# Altium integrated library Linear Technology Power Management Hot Swap Controllers.IntLib: 992 symbols (part 67 of 93)
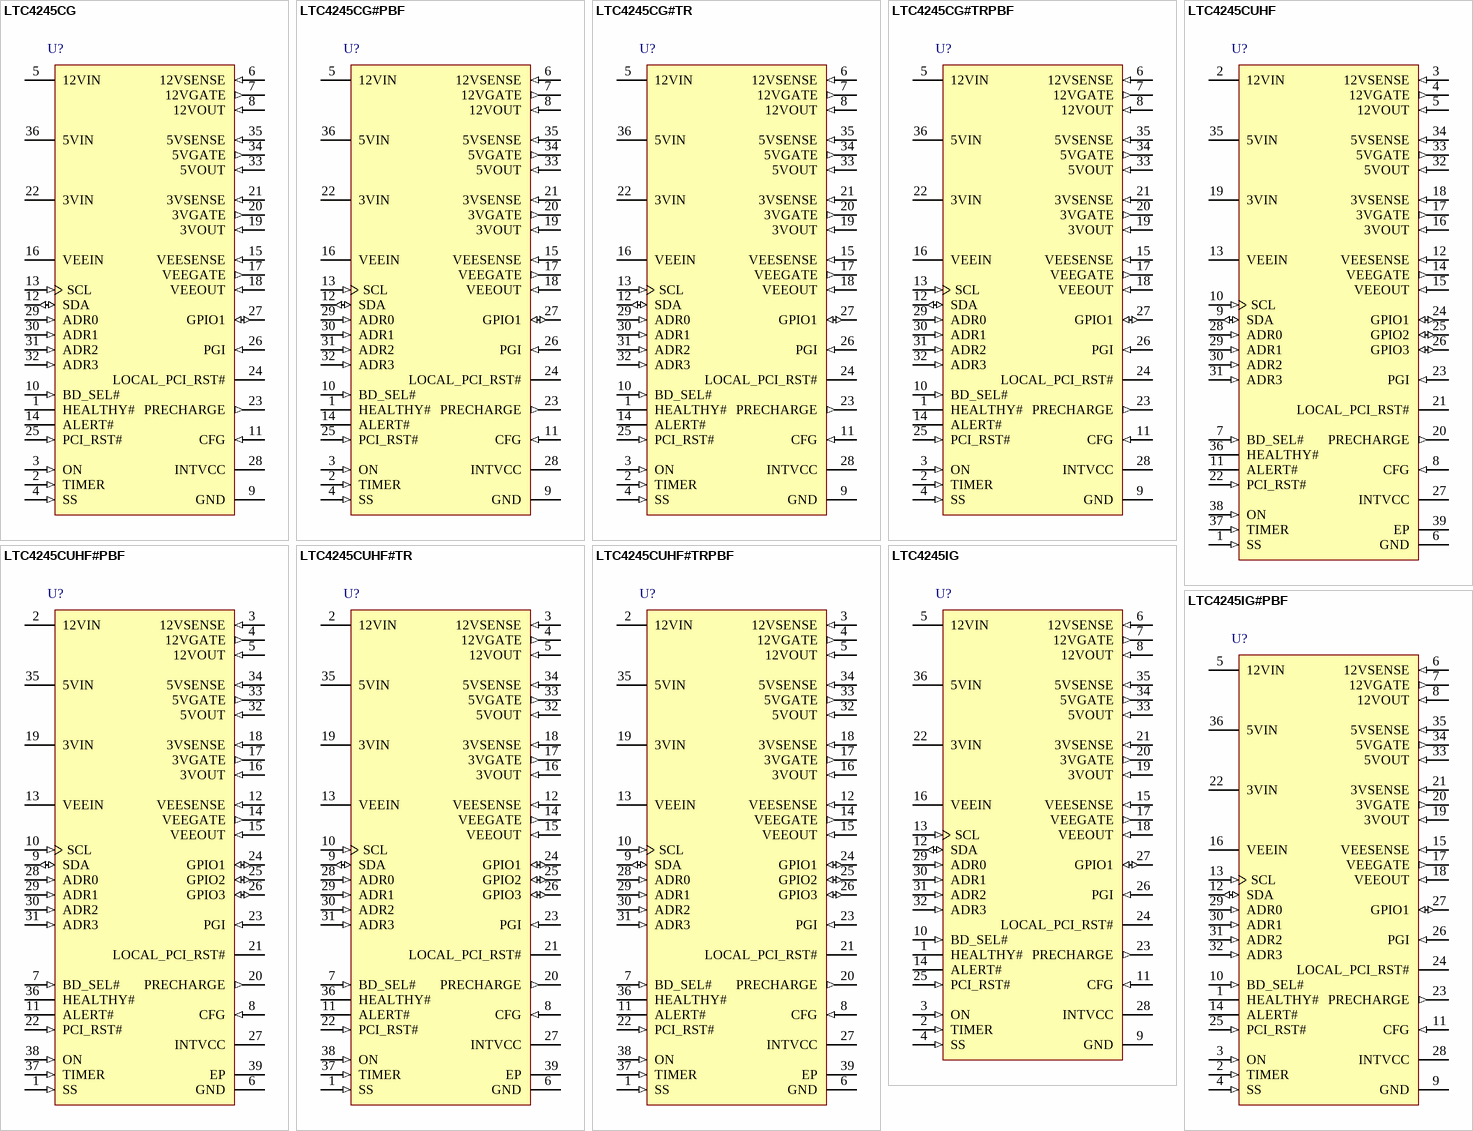
[diagram p103: symbols LTC4245CG to LTC4245IG#PBF]

## LTC4245CUHF#TR
designator U?
Multiple Supply Hot Swap Controller with I2C Compatible Monitoring, 3.3 V, 5 V, +/-12 V Vin, 38-pin QFN (UHF-38), 0 to 70 degC, Tape and Reel; Manufacturer: Linear Technology; PartNumber: LTC4245CUHF#TR; Active Limiting: yes; ADC: 8-bit; Circuit Breaker Accuracy(%): 10; Circuit Breaker Threshold: 25 mV (3.3,5), 50 mV (+/-12); Circuit Breakers(#): 4; Extended Temp: C, I; Fast Comparator: no; In-Rush Current: Active; Vin Range: 3.3, 5, +/-12 or 3.3, 12, 3.3 aux; DatasheetVersion: Rev. A; PackageVersion: Rev. C, 06/2010; PackageReference: UHF-38; PackageDescription: 38-Pin Plastic QFN, Body 7 x 5 mm, Pitch 0.5 mm; Fault: yes; Foldback: yes; Packing: Tape and Reel; Power Good: no; Reset: no; RoHS: FALSE; Mounting Technology: Surface Mount; Code_JEDEC: MO-220; ComponentLink1Description: Manufacturer URL; ComponentLink1URL: http://www.linear.com/; ComponentLink2Description: Datasheet; ComponentLink2URL: http://cds.linear.com/docs/en/datasheet/4245fa.pdf; ComponentLink3Description: Package Specification; ComponentLink3URL: http://cds.linear.com/docs/en/packaging/QFN_38_05-08-1701.pdf
footprint LT-UHF-38_N (QFN, 38-Leads, Body 7.1x5.1mm, Pitch 0.5mm, Thermal Pad 3.15x5.15mm, IPC Medium Density)
footprint LT-UHF-38_L (QFN, 38-Leads, Body 7.1x5.1mm, Pitch 0.5mm, Thermal Pad 3.15x5.15mm, IPC High Density)
footprint LT-UHF-38_M (QFN, 38-Leads, Body 7.1x5.1mm, Pitch 0.5mm, Thermal Pad 3.15x5.15mm, IPC Low Density)
pins: 1 SS (in) "Soft-Start Input. Connect a capacitor between this pin and ground to set the rate of increase of current limit during start-up for dI/dt limited inrush current. When an external MOSFET is turned on, a 20uA pull-up current (See Datasheet)", 2 12VIN (power) "12V Supply, Current Sense and ADC Input. The internal low voltage supply VCC is generated from 12VIN. An undervoltage lockout circuit, with 38mV hysteresis, prevents any external MOSFET from turning on when this pin is below (See Datasheet)", 3 12VSENSE (in) "12V Supply Current Sense and ADC Input. Connect this pin to the output of the 12V current sense resistor. The current limit circuit controls the 12VGATE pin to limit the sense voltage between the 12VIN and 12VSENSE pins to (See Datasheet)", 4 12VGATE (out) "Gate Drive for 12V Supply External N-Channel MOSFET. An internal 20uA current source charges the gate of the external N-channel MOSFET. An internal clamp limits the gate voltage to 6.2V above 12VOUT. During turn-off a 1.3mA (See Datasheet)", 5 12VOUT (in) "12V Gate Drive Return; Foldback, ADC and Power Bad Input. Connect this pin to the source of the 12V supply external N-channel MOSFET switch for gate drive return. Power is considered bad if this pin drops below 11.1V. The (See Datasheet)", 6 GND (power) "Device Ground.", 7 BD_SEL# (in) "Board Present Input. Ground this pin to enable the N-channel MOSFETs to turn on. When this pin is high, the MOSFETs are off. An internal 10uA current source pulls up this pin to INTVCC. Transitions on this pin will be (See Datasheet)", 8 CFG (in) "Supply Configuration Three-State Input. When this pin is grounded, all four supply inputs must satisfy their undervoltage lockout levels to allow the external MOSFETs to turn on. Floating this pin disables VEE undervoltage (See Datasheet)", 9 SDA (io) "Serial Bus Data Input and Output. This is a high impedance input when address, command or data bits are shifted in. It is an open-drain output when sending data back to the master controller or acknowledging a write (See Datasheet)", 10 SCL (in) "Serial Bus Clock Input. Data at the SDA pin is shifted in or out on rising edges of SCL. This is a high impedance pin that is generally driven by an open-collector output from a master controller.", 11 ALERT# (oc) "Fault Alert Output. Open-drain logic output that can be pulled to ground, when a fault occurs, to alert the host controller. A fault alert is enabled by the ALERT register. This device is compatible with SMBus alert protocol.(See Datasheet)", 12 VEESENSE (in) "-12V Supply Current Sense and ADC Input. Connect this pin to the output of the -12V current sense resistor. The current limit circuit controls the VEEGATE pin to limit the sense voltage between the VEESENSE and VEEIN pins to (See Datasheet)", 13 VEEIN (power) "-12V Supply, Current Sense and ADC Input. An undervoltage lockout circuit, with 38mV hysteresis, prevents any external MOSFET from turning on when this pin is above -10.5V. The VEEIN undervoltage lockout can be disabled by (See Datasheet)", 14 VEEGATE (out) "Gate Drive for -12V Supply External N-Channel MOSFET. An internal 20uA current source charges the gate of the external N-channel MOSFET. An internal clamp limits the gate voltage to 6.2V above VEEIN. During turn-off, a 3.5mA (See Datasheet)", 15 VEEOUT (in) "-12V Supply Foldback, ADC and Power Bad Input. Connect this pin to the drain of the -H497512V supply external N-channel MOSFET switch. Power is considered bad if this pin rises above -11.1V. The comparator on this pin has a (See Datasheet)", 16 3VOUT (in) "3.3V Gate Drive Return; Foldback, ADC and Power Bad Input. Connect this pin to the source of the 3.3V supply external N-channel MOSFET switch for gate drive return. Power is considered bad if this pin drops below 2.9V. The (See Datasheet)", 17 3VGATE (out) "Gate Drive for 3.3V Supply External N-Channel MOSFET. An internal 20uA current source charges the gate of the external N-channel MOSFET. An internal clamp limits the gate voltage to 6.2V above 3VOUT. During turn-off a 1.3mA (See Datasheet)", 18 3VSENSE (in) "3.3V Supply Current Sense and ADC Input. Connect this pin to the output of the 3.3V current sense resistor. The current limit circuit controls the 3VGATE pin to limit the sense voltage between the 3VIN and 3VSENSE pins to (See Datasheet)", 19 3VIN (power) "3.3V Supply, Current Sense and ADC Input. The 1V precharge circuit draws its power and reference voltage from 3VIN. An undervoltage lockout circuit, with 10mV hysteresis, prevents any external MOSFET from turning on when (See Datasheet)", 20 PRECHARGE (out) "Bus Precharge Output. This pin can source 70mA at 1V as soon as 3VIN is powered-up. Leave it open if unused.", 21 LOCAL_PCI_RST# (oc) "Reset Output. This pin is pulled low by an open-drain output whenever HEALTHY# is high or when the PCI_RST# input is low. Tie to ground if unused.", 22 PCI_RST# (in) "Reset Input. Pulling this pin low causes LOCAL_PCI_RST# to pull low. When high, LOCAL_PCI_RST# is the logical inverse of HEALTHY#. Tie to INTVCC if unused.", 23 PGI (in) "Power Good Input. Tie this pin to the R\E\S\E\T\ output of an external supply monitor or power good output of a DC/DC converter. When all supplies have been turned on, a timing cycle is started at the end of which the PGI (See Datasheet)", 24 GPIO1 (io) "General Purpose Input/Output and ADC Input. Open-drain logic outputs and logic inputs. Any one of the three pins can be multiplexed to the GPIO channel of the internal ADC. GPIO1 has a state change fault associated with it. (See Datasheet)", 25 GPIO2 (io) "General Purpose Input/Output and ADC Input. Open-drain logic outputs and logic inputs. Any one of the three pins can be multiplexed to the GPIO channel of the internal ADC. GPIO1 has a state change fault associated with it. (See Datasheet)", 26 GPIO3 (io) "General Purpose Input/Output and ADC Input. Open-drain logic outputs and logic inputs. Any one of the three pins can be multiplexed to the GPIO channel of the internal ADC. GPIO1 has a state change fault associated with it. (See Datasheet)", 27 INTVCC (power) "Internal Low Voltage Supply Decoupling Output. Connect a 0.1uF capacitor from this pin to ground. When this pin falls below 3.8V, the internal registers are reset.", 28 ADR0 (in) "Serial Bus Address Inputs. ADR0 and ADR1 are two-state inputs; ADR2 and ADR3 are threestate inputs. Tying these pins to ground, open or INTVCC configures one of 32 possible addresses. The addressing scheme is compatible (See Datasheet)", 29 ADR1 (in) "Serial Bus Address Inputs. ADR0 and ADR1 are two-state inputs; ADR2 and ADR3 are threestate inputs. Tying these pins to ground, open or INTVCC configures one of 32 possible addresses. The addressing scheme is compatible (See Datasheet)", 30 ADR2 (in) "Serial Bus Address Inputs. ADR0 and ADR1 are two-state inputs; ADR2 and ADR3 are threestate inputs. Tying these pins to ground, open or INTVCC configures one of 32 possible addresses. The addressing scheme is compatible (See Datasheet)", 31 ADR3 (in) "Serial Bus Address Inputs. ADR0 and ADR1 are two-state inputs; ADR2 and ADR3 are threestate inputs. Tying these pins to ground, open or INTVCC configures one of 32 possible addresses. The addressing scheme is compatible (See Datasheet)", 32 5VOUT (in) "5V Gate Drive Return; Foldback, ADC and Power Bad Input. Connect this pin to the source of the 5V supply external N-channel MOSFET switch for gate drive return. Power is considered bad if this pin drops below 4.63V or 2.9V (See Datasheet)", 33 5VGATE (out) "Gate Drive for 5V Supply External N-Channel MOSFET. An internal 20uA current source charges the gate of the external N-channel MOSFET. An internal clamp limits the gate voltage to 6.2V above 5VOUT. During turn-off a 1.3mA (See Datasheet)", 34 5VSENSE (in) "5V Supply Current Sense and ADC Input. Connect this pin to the output of the 5V current sense resistor. The current limit circuit controls the 5VGATE pin to limit the sense voltage between the 5VIN and 5VSENSE pins to 25mV (See Datasheet)", 35 5VIN (power) "5V Supply, Current Sense and ADC Input. An undervoltage lockout circuit, with 16mV or 10mV of hysteresis, prevents any external MOSFET from turning on when this pin is below 4.38V or 2.8V depending on the state of the CFG (See Datasheet)", 36 HEALTHY# (hiz) "Board Power Status Output. This pin is pulled low by an open-drain output when all supply outputs are above their power bad thresholds and when all external N-channel MOSFETs are on. When any supply output falls below its (See Datasheet)", 37 TIMER (in) "Timer Input. A capacitor between this pin and ground sets the duration of the start-up, PGI and auto-retry timing cycles to be 23.3ms/uF, 233ms/uF and 1.17s/uF respectively. A timing cycle consists of TIMER being charged to (See Datasheet)", 38 ON (in) "On Control Input. A rising edge turns on the external N-channel MOSFETs and a falling edge turns them off. This pin is also used to confi gure the state of the FET On control bits (and hence the external FETs) in the ON (See Datasheet)", 39 EP (power) "Exposed Pad may be left open or connected to device ground."

## LTC4245CUHF#TRPBF
designator U?
Multiple Supply Hot Swap Controller with I2C Compatible Monitoring, 3.3 V, 5 V, +/-12 V Vin, 38-pin QFN (UHF-38), 0 to 70 degC, Pb-Free, Tape and Reel; Manufacturer: Linear Technology; PartNumber: LTC4245CUHF#TRPBF; Active Limiting: yes; ADC: 8-bit; Circuit Breaker Accuracy(%): 10; Circuit Breaker Threshold: 25 mV (3.3,5), 50 mV (+/-12); Circuit Breakers(#): 4; Extended Temp: C, I; Fast Comparator: no; In-Rush Current: Active; Vin Range: 3.3, 5, +/-12 or 3.3, 12, 3.3 aux; DatasheetVersion: Rev. A; PackageVersion: Rev. C, 06/2010; PackageReference: UHF-38; PackageDescription: 38-Pin Plastic QFN, Body 7 x 5 mm, Pitch 0.5 mm; Supplier 1: Digi-Key; Supplier Part Number 1: LTC4245CUHF#TRPBF-ND; Fault: yes; Foldback: yes; Packing: Tape and Reel; Power Good: no; Reset: no; RoHS: TRUE; Mounting Technology: Surface Mount; Code_JEDEC: MO-220; ComponentLink1Description: Manufacturer URL; ComponentLink1URL: http://www.linear.com/; ComponentLink2Description: Datasheet; ComponentLink2URL: http://cds.linear.com/docs/en/datasheet/4245fa.pdf; ComponentLink3Description: Package Specification; ComponentLink3URL: http://cds.linear.com/docs/en/packaging/QFN_38_05-08-1701.pdf
footprint LT-UHF-38_N (QFN, 38-Leads, Body 7.1x5.1mm, Pitch 0.5mm, Thermal Pad 3.15x5.15mm, IPC Medium Density)
footprint LT-UHF-38_L (QFN, 38-Leads, Body 7.1x5.1mm, Pitch 0.5mm, Thermal Pad 3.15x5.15mm, IPC High Density)
footprint LT-UHF-38_M (QFN, 38-Leads, Body 7.1x5.1mm, Pitch 0.5mm, Thermal Pad 3.15x5.15mm, IPC Low Density)
pins: 1 SS (in) "Soft-Start Input. Connect a capacitor between this pin and ground to set the rate of increase of current limit during start-up for dI/dt limited inrush current. When an external MOSFET is turned on, a 20uA pull-up current (See Datasheet)", 2 12VIN (power) "12V Supply, Current Sense and ADC Input. The internal low voltage supply VCC is generated from 12VIN. An undervoltage lockout circuit, with 38mV hysteresis, prevents any external MOSFET from turning on when this pin is below (See Datasheet)", 3 12VSENSE (in) "12V Supply Current Sense and ADC Input. Connect this pin to the output of the 12V current sense resistor. The current limit circuit controls the 12VGATE pin to limit the sense voltage between the 12VIN and 12VSENSE pins to (See Datasheet)", 4 12VGATE (out) "Gate Drive for 12V Supply External N-Channel MOSFET. An internal 20uA current source charges the gate of the external N-channel MOSFET. An internal clamp limits the gate voltage to 6.2V above 12VOUT. During turn-off a 1.3mA (See Datasheet)", 5 12VOUT (in) "12V Gate Drive Return; Foldback, ADC and Power Bad Input. Connect this pin to the source of the 12V supply external N-channel MOSFET switch for gate drive return. Power is considered bad if this pin drops below 11.1V. The (See Datasheet)", 6 GND (power) "Device Ground.", 7 BD_SEL# (in) "Board Present Input. Ground this pin to enable the N-channel MOSFETs to turn on. When this pin is high, the MOSFETs are off. An internal 10uA current source pulls up this pin to INTVCC. Transitions on this pin will be (See Datasheet)", 8 CFG (in) "Supply Configuration Three-State Input. When this pin is grounded, all four supply inputs must satisfy their undervoltage lockout levels to allow the external MOSFETs to turn on. Floating this pin disables VEE undervoltage (See Datasheet)", 9 SDA (io) "Serial Bus Data Input and Output. This is a high impedance input when address, command or data bits are shifted in. It is an open-drain output when sending data back to the master controller or acknowledging a write (See Datasheet)", 10 SCL (in) "Serial Bus Clock Input. Data at the SDA pin is shifted in or out on rising edges of SCL. This is a high impedance pin that is generally driven by an open-collector output from a master controller.", 11 ALERT# (oc) "Fault Alert Output. Open-drain logic output that can be pulled to ground, when a fault occurs, to alert the host controller. A fault alert is enabled by the ALERT register. This device is compatible with SMBus alert protocol.(See Datasheet)", 12 VEESENSE (in) "-12V Supply Current Sense and ADC Input. Connect this pin to the output of the -12V current sense resistor. The current limit circuit controls the VEEGATE pin to limit the sense voltage between the VEESENSE and VEEIN pins to (See Datasheet)", 13 VEEIN (power) "-12V Supply, Current Sense and ADC Input. An undervoltage lockout circuit, with 38mV hysteresis, prevents any external MOSFET from turning on when this pin is above -10.5V. The VEEIN undervoltage lockout can be disabled by (See Datasheet)", 14 VEEGATE (out) "Gate Drive for -12V Supply External N-Channel MOSFET. An internal 20uA current source charges the gate of the external N-channel MOSFET. An internal clamp limits the gate voltage to 6.2V above VEEIN. During turn-off, a 3.5mA (See Datasheet)", 15 VEEOUT (in) "-12V Supply Foldback, ADC and Power Bad Input. Connect this pin to the drain of the -H497512V supply external N-channel MOSFET switch. Power is considered bad if this pin rises above -11.1V. The comparator on this pin has a (See Datasheet)", 16 3VOUT (in) "3.3V Gate Drive Return; Foldback, ADC and Power Bad Input. Connect this pin to the source of the 3.3V supply external N-channel MOSFET switch for gate drive return. Power is considered bad if this pin drops below 2.9V. The (See Datasheet)", 17 3VGATE (out) "Gate Drive for 3.3V Supply External N-Channel MOSFET. An internal 20uA current source charges the gate of the external N-channel MOSFET. An internal clamp limits the gate voltage to 6.2V above 3VOUT. During turn-off a 1.3mA (See Datasheet)", 18 3VSENSE (in) "3.3V Supply Current Sense and ADC Input. Connect this pin to the output of the 3.3V current sense resistor. The current limit circuit controls the 3VGATE pin to limit the sense voltage between the 3VIN and 3VSENSE pins to (See Datasheet)", 19 3VIN (power) "3.3V Supply, Current Sense and ADC Input. The 1V precharge circuit draws its power and reference voltage from 3VIN. An undervoltage lockout circuit, with 10mV hysteresis, prevents any external MOSFET from turning on when (See Datasheet)", 20 PRECHARGE (out) "Bus Precharge Output. This pin can source 70mA at 1V as soon as 3VIN is powered-up. Leave it open if unused.", 21 LOCAL_PCI_RST# (oc) "Reset Output. This pin is pulled low by an open-drain output whenever HEALTHY# is high or when the PCI_RST# input is low. Tie to ground if unused.", 22 PCI_RST# (in) "Reset Input. Pulling this pin low causes LOCAL_PCI_RST# to pull low. When high, LOCAL_PCI_RST# is the logical inverse of HEALTHY#. Tie to INTVCC if unused.", 23 PGI (in) "Power Good Input. Tie this pin to the R\E\S\E\T\ output of an external supply monitor or power good output of a DC/DC converter. When all supplies have been turned on, a timing cycle is started at the end of which the PGI (See Datasheet)", 24 GPIO1 (io) "General Purpose Input/Output and ADC Input. Open-drain logic outputs and logic inputs. Any one of the three pins can be multiplexed to the GPIO channel of the internal ADC. GPIO1 has a state change fault associated with it. (See Datasheet)", 25 GPIO2 (io) "General Purpose Input/Output and ADC Input. Open-drain logic outputs and logic inputs. Any one of the three pins can be multiplexed to the GPIO channel of the internal ADC. GPIO1 has a state change fault associated with it. (See Datasheet)", 26 GPIO3 (io) "General Purpose Input/Output and ADC Input. Open-drain logic outputs and logic inputs. Any one of the three pins can be multiplexed to the GPIO channel of the internal ADC. GPIO1 has a state change fault associated with it. (See Datasheet)", 27 INTVCC (power) "Internal Low Voltage Supply Decoupling Output. Connect a 0.1uF capacitor from this pin to ground. When this pin falls below 3.8V, the internal registers are reset.", 28 ADR0 (in) "Serial Bus Address Inputs. ADR0 and ADR1 are two-state inputs; ADR2 and ADR3 are threestate inputs. Tying these pins to ground, open or INTVCC configures one of 32 possible addresses. The addressing scheme is compatible (See Datasheet)", 29 ADR1 (in) "Serial Bus Address Inputs. ADR0 and ADR1 are two-state inputs; ADR2 and ADR3 are threestate inputs. Tying these pins to ground, open or INTVCC configures one of 32 possible addresses. The addressing scheme is compatible (See Datasheet)", 30 ADR2 (in) "Serial Bus Address Inputs. ADR0 and ADR1 are two-state inputs; ADR2 and ADR3 are threestate inputs. Tying these pins to ground, open or INTVCC configures one of 32 possible addresses. The addressing scheme is compatible (See Datasheet)", 31 ADR3 (in) "Serial Bus Address Inputs. ADR0 and ADR1 are two-state inputs; ADR2 and ADR3 are threestate inputs. Tying these pins to ground, open or INTVCC configures one of 32 possible addresses. The addressing scheme is compatible (See Datasheet)", 32 5VOUT (in) "5V Gate Drive Return; Foldback, ADC and Power Bad Input. Connect this pin to the source of the 5V supply external N-channel MOSFET switch for gate drive return. Power is considered bad if this pin drops below 4.63V or 2.9V (See Datasheet)", 33 5VGATE (out) "Gate Drive for 5V Supply External N-Channel MOSFET. An internal 20uA current source charges the gate of the external N-channel MOSFET. An internal clamp limits the gate voltage to 6.2V above 5VOUT. During turn-off a 1.3mA (See Datasheet)", 34 5VSENSE (in) "5V Supply Current Sense and ADC Input. Connect this pin to the output of the 5V current sense resistor. The current limit circuit controls the 5VGATE pin to limit the sense voltage between the 5VIN and 5VSENSE pins to 25mV (See Datasheet)", 35 5VIN (power) "5V Supply, Current Sense and ADC Input. An undervoltage lockout circuit, with 16mV or 10mV of hysteresis, prevents any external MOSFET from turning on when this pin is below 4.38V or 2.8V depending on the state of the CFG (See Datasheet)", 36 HEALTHY# (hiz) "Board Power Status Output. This pin is pulled low by an open-drain output when all supply outputs are above their power bad thresholds and when all external N-channel MOSFETs are on. When any supply output falls below its (See Datasheet)", 37 TIMER (in) "Timer Input. A capacitor between this pin and ground sets the duration of the start-up, PGI and auto-retry timing cycles to be 23.3ms/uF, 233ms/uF and 1.17s/uF respectively. A timing cycle consists of TIMER being charged to (See Datasheet)", 38 ON (in) "On Control Input. A rising edge turns on the external N-channel MOSFETs and a falling edge turns them off. This pin is also used to confi gure the state of the FET On control bits (and hence the external FETs) in the ON (See Datasheet)", 39 EP (power) "Exposed Pad may be left open or connected to device ground."

## LTC4245IG
designator U?
Multiple Supply Hot Swap Controller with I2C Compatible Monitoring, 3.3 V, 5 V, +/-12 V Vin, 36-pin SOP (G-36), -40 to 85 degC; Manufacturer: Linear Technology; PartNumber: LTC4245IG; Active Limiting: yes; ADC: 8-bit; Circuit Breaker Accuracy(%): 10; Circuit Breaker Threshold: 25 mV (3.3,5), 50 mV (+/-12); Circuit Breakers(#): 4; Extended Temp: C, I; Fast Comparator: no; In-Rush Current: Active; Vin Range: 3.3, 5, +/-12 or 3.3, 12, 3.3 aux; DatasheetVersion: Rev. A; PackageReference: G-36; PackageDescription: 36-Pin Plastic SSOP, Body 12.8 x 5.3 mm, Pitch 0.65 mm; Fault: yes; Foldback: yes; Power Good: no; Reset: no; RoHS: FALSE; Mounting Technology: Surface Mount; ComponentLink1Description: Manufacturer URL; ComponentLink1URL: http://www.linear.com/; ComponentLink2Description: Datasheet; ComponentLink2URL: http://cds.linear.com/docs/en/datasheet/4245fa.pdf; ComponentLink3Description: Package Specification; ComponentLink3URL: http://cds.linear.com/docs/en/packaging/SSOP_36_05-08-1640.pdf
footprint LT-G-36_N (SOP, 36-Leads, Body 13.1x5.6mm, Pitch 0.65mm, IPC Medium Density)
footprint LT-G-36_L (SOP, 36-Leads, Body 13.1x5.6mm, Pitch 0.65mm, IPC High Density)
footprint LT-G-36_M (SOP, 36-Leads, Body 13.1x5.6mm, Pitch 0.65mm, IPC Low Density)
pins: 1 HEALTHY# (hiz) "Board Power Status Output. This pin is pulled low by an open-drain output when all supply outputs are above their power bad thresholds and when all external N-channel MOSFETs are on. When any supply output falls below its (See Datasheet)", 2 TIMER (in) "Timer Input. A capacitor between this pin and ground sets the duration of the start-up, PGI and auto-retry timing cycles to be 23.3ms/uF, 233ms/uF and 1.17s/uF respectively. A timing cycle consists of TIMER being charged to (See Datasheet)", 3 ON (in) "On Control Input. A rising edge turns on the external N-channel MOSFETs and a falling edge turns them off. This pin is also used to configure the state of the FET On control bits (and hence the external FETs) in the ON (See Datasheet)", 4 SS (in) "Soft-Start Input. Connect a capacitor between this pin and ground to set the rate of increase of current limit during start-up for dI/dt limited inrush current. When an external MOSFET is turned on, a 20uA pull-up current (See Datasheet)", 5 12VIN (power) "12V Supply, Current Sense and ADC Input. The internal low voltage supply VCC is generated from 12VIN. An undervoltage lockout circuit, with 38mV hysteresis, prevents any external MOSFET from turning on when this pin is below (See Datasheet)", 6 12VSENSE (in) "12V Supply Current Sense and ADC Input. Connect this pin to the output of the 12V current sense resistor. The current limit circuit controls the 12VGATE pin to limit the sense voltage between the 12VIN and 12VSENSE pins to (See Datasheet)", 7 12VGATE (out) "Gate Drive for 12V Supply External N-Channel MOSFET. An internal 20uA current source charges the gate of the external N-channel MOSFET. An internal clamp limits the gate voltage to 6.2V above 12VOUT. During turn-off a 1.3mA (See Datasheet)", 8 12VOUT (in) "12V Gate Drive Return; Foldback, ADC and Power Bad Input. Connect this pin to the source of the 12V supply external N-channel MOSFET switch for gate drive return. Power is considered bad if this pin drops below 11.1V. The (See Datasheet)", 9 GND (power) "Device Ground.", 10 BD_SEL# (in) "Board Present Input. Ground this pin to enable the N-channel MOSFETs to turn on. When this pin is high, the MOSFETs are off. An internal 10uA current source pulls up this pin to INTVCC. Transitions on this pin will be (See Datasheet)", 11 CFG (in) "Supply Confi guration Three-State Input. When this pin is grounded, all four supply inputs must satisfy their undervoltage lockout levels to allow the external MOSFETs to turn on. Floating this pin disables VEE undervoltage (See Datasheet)", 12 SDA (io) "Serial Bus Data Input and Output. This is a high impedance input when address, command or data bits are shifted in. It is an open-drain output when sending data back to the master controller or acknowledging a write (See Datasheet)", 13 SCL (in) "Serial Bus Clock Input. Data at the SDA pin is shifted in or out on rising edges of SCL. This is a high impedance pin that is generally driven by an open-collector output from a master controller.", 14 ALERT# (oc) "Fault Alert Output. Open-drain logic output that can be pulled to ground, when a fault occurs, to alert the host controller. A fault alert is enabled by the ALERT register. This device is compatible with SMBus alert protocol.(See Datasheet)", 15 VEESENSE (in) "-12V Supply Current Sense and ADC Input. Connect this pin to the output of the -12V current sense resistor. The current limit circuit controls the VEEGATE pin to limit the sense voltage between the VEESENSE and VEEIN pins to (See Datasheet)", 16 VEEIN (power) "-12V Supply, Current Sense and ADC Input. An undervoltage lockout circuit, with 38mV hysteresis, prevents any external MOSFET from turning on when this pin is above -10.5V. The VEEIN undervoltage lockout can be disabled by (See Datasheet)", 17 VEEGATE (out) "Gate Drive for -12V Supply External N-Channel MOSFET. An internal 20uA current source charges the gate of the external N-channel MOSFET. An internal clamp limits the gate voltage to 6.2V above VEEIN. During turn-off, a 3.5mA (See Datasheet)", 18 VEEOUT (in) "-12V Supply Foldback, ADC and Power Bad Input. Connect this pin to the drain of the -H497512V supply external N-channel MOSFET switch. Power is considered bad if this pin rises above -11.1V. The comparator on this pin has a (See Datasheet)", 19 3VOUT (in) "3.3V Gate Drive Return; Foldback, ADC and Power Bad Input. Connect this pin to the source of the 3.3V supply external N-channel MOSFET switch for gate drive return. Power is considered bad if this pin drops below 2.9V. The (See Datasheet)", 20 3VGATE (out) "Gate Drive for 3.3V Supply External N-Channel MOSFET. An internal 20uA current source charges the gate of the external N-channel MOSFET. An internal clamp limits the gate voltage to 6.2V above 3VOUT. During turn-off a 1.3mA (See Datasheet)", 21 3VSENSE (in) "3.3V Supply Current Sense and ADC Input. Connect this pin to the output of the 3.3V current sense resistor. The current limit circuit controls the 3VGATE pin to limit the sense voltage between the 3VIN and 3VSENSE pins to (See Datasheet)", 22 3VIN (power) "3.3V Supply, Current Sense and ADC Input. The 1V precharge circuit draws its power and reference voltage from 3VIN. An undervoltage lockout circuit, with 10mV hysteresis, prevents any external MOSFET from turning on when (See Datasheet)", 23 PRECHARGE (out) "Bus Precharge Output. This pin can source 70mA at 1V as soon as 3VIN is powered-up. Leave it open if unused.", 24 LOCAL_PCI_RST# (oc) "Reset Output. This pin is pulled low by an open-drain output whenever HEALTHY# is high or when the PCI_RST# input is low. Tie to ground if unused.", 25 PCI_RST# (in) "Reset Input. Pulling this pin low causes LOCAL_PCI_RST# to pull low. When high, LOCAL_PCI_RST# is the logical inverse of HEALTHY#. Tie to INTVCC if unused.", 26 PGI (in) "Power Good Input. Tie this pin to the R\E\S\E\T\ output of an external supply monitor or power good output of a DC/DC converter. When all supplies have been turned on, a timing cycle is started at the end of which the PGI (See Datasheet)", 27 GPIO1 (io) "General Purpose Input/Output and ADC Input. Open-drain logic outputs and logic inputs. Any one of the three pins can be multiplexed to the GPIO channel of the internal ADC. GPIO1 has a state change fault associated with it. (See Datasheet)", 28 INTVCC (power) "Internal Low Voltage Supply Decoupling Output. Connect a 0.1uF capacitor from this pin to ground. When this pin falls below 3.8V, the internal registers are reset.", 29 ADR0 (in) "Serial Bus Address Inputs. ADR0 and ADR1 are two-state inputs; ADR2 and ADR3 are threestate inputs. Tying these pins to ground, open or INTVCC configures one of 32 possible addresses. The addressing scheme is compatible (See Datasheet)", 30 ADR1 (in) "Serial Bus Address Inputs. ADR0 and ADR1 are two-state inputs; ADR2 and ADR3 are threestate inputs. Tying these pins to ground, open or INTVCC configures one of 32 possible addresses. The addressing scheme is compatible (See Datasheet)", 31 ADR2 (in) "Serial Bus Address Inputs. ADR0 and ADR1 are two-state inputs; ADR2 and ADR3 are threestate inputs. Tying these pins to ground, open or INTVCC configures one of 32 possible addresses. The addressing scheme is compatible (See Datasheet)", 32 ADR3 (in) "Serial Bus Address Inputs. ADR0 and ADR1 are two-state inputs; ADR2 and ADR3 are threestate inputs. Tying these pins to ground, open or INTVCC configures one of 32 possible addresses. The addressing scheme is compatible (See Datasheet)", 33 5VOUT (in) "5V Gate Drive Return; Foldback, ADC and Power Bad Input. Connect this pin to the source of the 5V supply external N-channel MOSFET switch for gate drive return. Power is considered bad if this pin drops below 4.63V or 2.9V (See Datasheet)", 34 5VGATE (out) "Gate Drive for 5V Supply External N-Channel MOSFET. An internal 20uA current source charges the gate of the external N-channel MOSFET. An internal clamp limits the gate voltage to 6.2V above 5VOUT. During turn-off a 1.3mA (See Datasheet)", 35 5VSENSE (in) "5V Supply Current Sense and ADC Input. Connect this pin to the output of the 5V current sense resistor. The current limit circuit controls the 5VGATE pin to limit the sense voltage between the 5VIN and 5VSENSE pins to 25mV (See Datasheet)", 36 5VIN (power) "5V Supply, Current Sense and ADC Input. An undervoltage lockout circuit, with 16mV or 10mV of hysteresis, prevents any external MOSFET from turning on when this pin is below 4.38V or 2.8V depending on the state of the CFG (See Datasheet)"

## LTC4245IG#PBF
designator U?
Multiple Supply Hot Swap Controller with I2C Compatible Monitoring, 3.3 V, 5 V, +/-12 V Vin, 36-pin SOP (G-36), -40 to 85 degC, Pb-Free; Manufacturer: Linear Technology; PartNumber: LTC4245IG#PBF; Active Limiting: yes; ADC: 8-bit; Circuit Breaker Accuracy(%): 10; Circuit Breaker Threshold: 25 mV (3.3,5), 50 mV (+/-12); Circuit Breakers(#): 4; Extended Temp: C, I; Fast Comparator: no; In-Rush Current: Active; Vin Range: 3.3, 5, +/-12 or 3.3, 12, 3.3 aux; DatasheetVersion: Rev. A; PackageReference: G-36; PackageDescription: 36-Pin Plastic SSOP, Body 12.8 x 5.3 mm, Pitch 0.65 mm; Supplier 1: Digi-Key; Supplier Part Number 1: LTC4245IG#PBF-ND; Fault: yes; Foldback: yes; Power Good: no; Reset: no; RoHS: TRUE; Mounting Technology: Surface Mount; ComponentLink1Description: Manufacturer URL; ComponentLink1URL: http://www.linear.com/; ComponentLink2Description: Datasheet; ComponentLink2URL: http://cds.linear.com/docs/en/datasheet/4245fa.pdf; ComponentLink3Description: Package Specification; ComponentLink3URL: http://cds.linear.com/docs/en/packaging/SSOP_36_05-08-1640.pdf
footprint LT-G-36_N (SOP, 36-Leads, Body 13.1x5.6mm, Pitch 0.65mm, IPC Medium Density)
footprint LT-G-36_L (SOP, 36-Leads, Body 13.1x5.6mm, Pitch 0.65mm, IPC High Density)
footprint LT-G-36_M (SOP, 36-Leads, Body 13.1x5.6mm, Pitch 0.65mm, IPC Low Density)
pins: 1 HEALTHY# (hiz) "Board Power Status Output. This pin is pulled low by an open-drain output when all supply outputs are above their power bad thresholds and when all external N-channel MOSFETs are on. When any supply output falls below its (See Datasheet)", 2 TIMER (in) "Timer Input. A capacitor between this pin and ground sets the duration of the start-up, PGI and auto-retry timing cycles to be 23.3ms/uF, 233ms/uF and 1.17s/uF respectively. A timing cycle consists of TIMER being charged to (See Datasheet)", 3 ON (in) "On Control Input. A rising edge turns on the external N-channel MOSFETs and a falling edge turns them off. This pin is also used to configure the state of the FET On control bits (and hence the external FETs) in the ON (See Datasheet)", 4 SS (in) "Soft-Start Input. Connect a capacitor between this pin and ground to set the rate of increase of current limit during start-up for dI/dt limited inrush current. When an external MOSFET is turned on, a 20uA pull-up current (See Datasheet)", 5 12VIN (power) "12V Supply, Current Sense and ADC Input. The internal low voltage supply VCC is generated from 12VIN. An undervoltage lockout circuit, with 38mV hysteresis, prevents any external MOSFET from turning on when this pin is below (See Datasheet)", 6 12VSENSE (in) "12V Supply Current Sense and ADC Input. Connect this pin to the output of the 12V current sense resistor. The current limit circuit controls the 12VGATE pin to limit the sense voltage between the 12VIN and 12VSENSE pins to (See Datasheet)", 7 12VGATE (out) "Gate Drive for 12V Supply External N-Channel MOSFET. An internal 20uA current source charges the gate of the external N-channel MOSFET. An internal clamp limits the gate voltage to 6.2V above 12VOUT. During turn-off a 1.3mA (See Datasheet)", 8 12VOUT (in) "12V Gate Drive Return; Foldback, ADC and Power Bad Input. Connect this pin to the source of the 12V supply external N-channel MOSFET switch for gate drive return. Power is considered bad if this pin drops below 11.1V. The (See Datasheet)", 9 GND (power) "Device Ground.", 10 BD_SEL# (in) "Board Present Input. Ground this pin to enable the N-channel MOSFETs to turn on. When this pin is high, the MOSFETs are off. An internal 10uA current source pulls up this pin to INTVCC. Transitions on this pin will be (See Datasheet)", 11 CFG (in) "Supply Confi guration Three-State Input. When this pin is grounded, all four supply inputs must satisfy their undervoltage lockout levels to allow the external MOSFETs to turn on. Floating this pin disables VEE undervoltage (See Datasheet)", 12 SDA (io) "Serial Bus Data Input and Output. This is a high impedance input when address, command or data bits are shifted in. It is an open-drain output when sending data back to the master controller or acknowledging a write (See Datasheet)", 13 SCL (in) "Serial Bus Clock Input. Data at the SDA pin is shifted in or out on rising edges of SCL. This is a high impedance pin that is generally driven by an open-collector output from a master controller.", 14 ALERT# (oc) "Fault Alert Output. Open-drain logic output that can be pulled to ground, when a fault occurs, to alert the host controller. A fault alert is enabled by the ALERT register. This device is compatible with SMBus alert protocol.(See Datasheet)", 15 VEESENSE (in) "-12V Supply Current Sense and ADC Input. Connect this pin to the output of the -12V current sense resistor. The current limit circuit controls the VEEGATE pin to limit the sense voltage between the VEESENSE and VEEIN pins to (See Datasheet)", 16 VEEIN (power) "-12V Supply, Current Sense and ADC Input. An undervoltage lockout circuit, with 38mV hysteresis, prevents any external MOSFET from turning on when this pin is above -10.5V. The VEEIN undervoltage lockout can be disabled by (See Datasheet)", 17 VEEGATE (out) "Gate Drive for -12V Supply External N-Channel MOSFET. An internal 20uA current source charges the gate of the external N-channel MOSFET. An internal clamp limits the gate voltage to 6.2V above VEEIN. During turn-off, a 3.5mA (See Datasheet)", 18 VEEOUT (in) "-12V Supply Foldback, ADC and Power Bad Input. Connect this pin to the drain of the -H497512V supply external N-channel MOSFET switch. Power is considered bad if this pin rises above -11.1V. The comparator on this pin has a (See Datasheet)", 19 3VOUT (in) "3.3V Gate Drive Return; Foldback, ADC and Power Bad Input. Connect this pin to the source of the 3.3V supply external N-channel MOSFET switch for gate drive return. Power is considered bad if this pin drops below 2.9V. The (See Datasheet)", 20 3VGATE (out) "Gate Drive for 3.3V Supply External N-Channel MOSFET. An internal 20uA current source charges the gate of the external N-channel MOSFET. An internal clamp limits the gate voltage to 6.2V above 3VOUT. During turn-off a 1.3mA (See Datasheet)", 21 3VSENSE (in) "3.3V Supply Current Sense and ADC Input. Connect this pin to the output of the 3.3V current sense resistor. The current limit circuit controls the 3VGATE pin to limit the sense voltage between the 3VIN and 3VSENSE pins to (See Datasheet)", 22 3VIN (power) "3.3V Supply, Current Sense and ADC Input. The 1V precharge circuit draws its power and reference voltage from 3VIN. An undervoltage lockout circuit, with 10mV hysteresis, prevents any external MOSFET from turning on when (See Datasheet)", 23 PRECHARGE (out) "Bus Precharge Output. This pin can source 70mA at 1V as soon as 3VIN is powered-up. Leave it open if unused.", 24 LOCAL_PCI_RST# (oc) "Reset Output. This pin is pulled low by an open-drain output whenever HEALTHY# is high or when the PCI_RST# input is low. Tie to ground if unused.", 25 PCI_RST# (in) "Reset Input. Pulling this pin low causes LOCAL_PCI_RST# to pull low. When high, LOCAL_PCI_RST# is the logical inverse of HEALTHY#. Tie to INTVCC if unused.", 26 PGI (in) "Power Good Input. Tie this pin to the R\E\S\E\T\ output of an external supply monitor or power good output of a DC/DC converter. When all supplies have been turned on, a timing cycle is started at the end of which the PGI (See Datasheet)", 27 GPIO1 (io) "General Purpose Input/Output and ADC Input. Open-drain logic outputs and logic inputs. Any one of the three pins can be multiplexed to the GPIO channel of the internal ADC. GPIO1 has a state change fault associated with it. (See Datasheet)", 28 INTVCC (power) "Internal Low Voltage Supply Decoupling Output. Connect a 0.1uF capacitor from this pin to ground. When this pin falls below 3.8V, the internal registers are reset.", 29 ADR0 (in) "Serial Bus Address Inputs. ADR0 and ADR1 are two-state inputs; ADR2 and ADR3 are threestate inputs. Tying these pins to ground, open or INTVCC configures one of 32 possible addresses. The addressing scheme is compatible (See Datasheet)", 30 ADR1 (in) "Serial Bus Address Inputs. ADR0 and ADR1 are two-state inputs; ADR2 and ADR3 are threestate inputs. Tying these pins to ground, open or INTVCC configures one of 32 possible addresses. The addressing scheme is compatible (See Datasheet)", 31 ADR2 (in) "Serial Bus Address Inputs. ADR0 and ADR1 are two-state inputs; ADR2 and ADR3 are threestate inputs. Tying these pins to ground, open or INTVCC configures one of 32 possible addresses. The addressing scheme is compatible (See Datasheet)", 32 ADR3 (in) "Serial Bus Address Inputs. ADR0 and ADR1 are two-state inputs; ADR2 and ADR3 are threestate inputs. Tying these pins to ground, open or INTVCC configures one of 32 possible addresses. The addressing scheme is compatible (See Datasheet)", 33 5VOUT (in) "5V Gate Drive Return; Foldback, ADC and Power Bad Input. Connect this pin to the source of the 5V supply external N-channel MOSFET switch for gate drive return. Power is considered bad if this pin drops below 4.63V or 2.9V (See Datasheet)", 34 5VGATE (out) "Gate Drive for 5V Supply External N-Channel MOSFET. An internal 20uA current source charges the gate of the external N-channel MOSFET. An internal clamp limits the gate voltage to 6.2V above 5VOUT. During turn-off a 1.3mA (See Datasheet)", 35 5VSENSE (in) "5V Supply Current Sense and ADC Input. Connect this pin to the output of the 5V current sense resistor. The current limit circuit controls the 5VGATE pin to limit the sense voltage between the 5VIN and 5VSENSE pins to 25mV (See Datasheet)", 36 5VIN (power) "5V Supply, Current Sense and ADC Input. An undervoltage lockout circuit, with 16mV or 10mV of hysteresis, prevents any external MOSFET from turning on when this pin is below 4.38V or 2.8V depending on the state of the CFG (See Datasheet)"

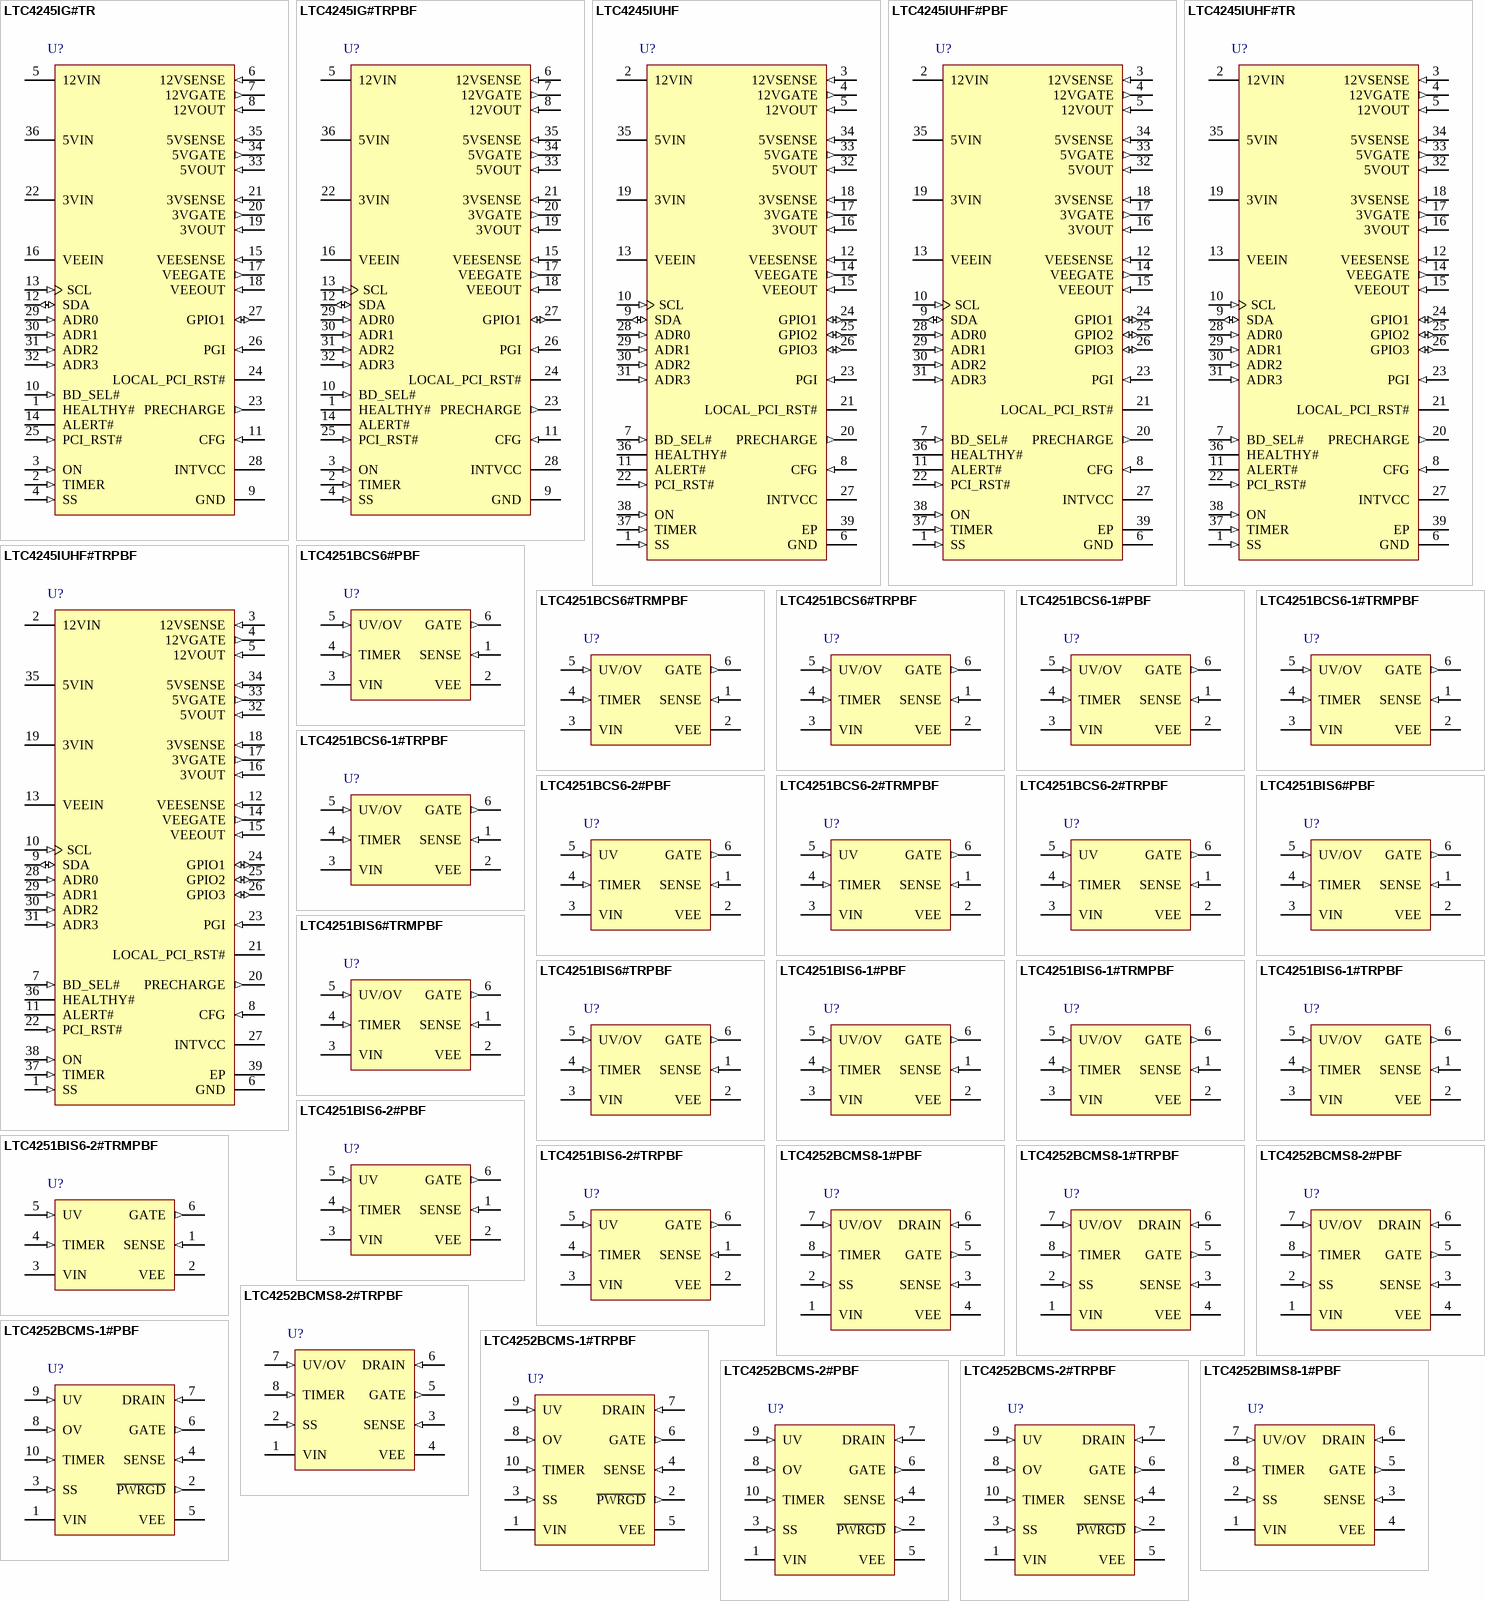
[diagram p28: symbols LTC4245IG#TR to LTC4252BIMS8-1#PBF]